# Altium footprint library PCB_LIB.PcbLib: 19 footprints (part 2 of 2)
Each footprint in its own frame and in the unit in brackets; x right, y up, seen from the top. Pads: shape width x height; smd on the part's side, far side on the other; paste and mask are expansions set on the pad; w line width, h text height; cw(c..) or ccw(c..) is an arc to the next point about the centre after c.
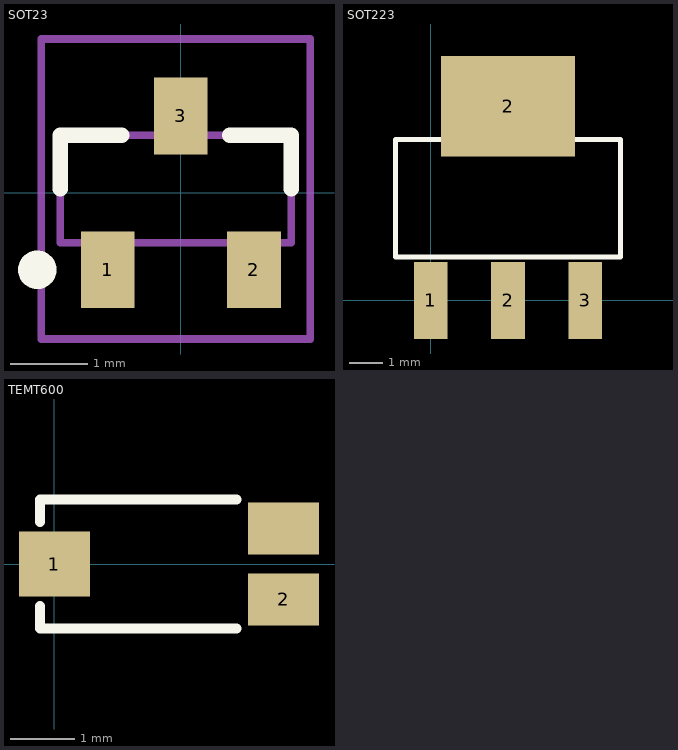
[diagram p1: the footprints below, top view; thin cyan lines are the x and y axes]

## SOT23 [mm]
pads (3):
  rect 0.7x1 smd: 1(-0.95,-1) 2(0.95,-1) 3(0,1)
Top Overlay:
  circle w0.25: c-1.866,-1 r0.125
  lines w0.2: -1.566,0.05 -1.566,0.75 -0.766,0.75 ; 0.634,0.75 1.434,0.75 1.434,0.05
Mechanical 13:
  lines w0.1: -1.566,-0.65 1.434,-0.65 1.434,0.75 -1.566,0.75 -1.566,-0.65
Mechanical 15:
  lines w0.1: -1.816,-1.9 1.684,-1.9 1.684,2 -1.816,2 -1.816,-1.9
3D body "SOT23.step": height 1.09, standoff 0, extent -1.5,-1.25 1.5,1.25

## SOT223 [mm]
pads (4):
  rect 1x2.3 smd: 1(0,0) 2(2.3,0) 3(4.6,0)
  rect 4x3 smd: 2(2.3,5.8)
Top Overlay:
  lines w0.15: -1.05,1.3 -1.05,4.8 5.65,4.8 5.65,1.3 -1.05,1.3
3D body "User Library-SOT-223-1.step": height 1.64, standoff -0.01, extent -0.95,-0.5 5.55,6.5

## TEMT600 [mm] "Ambient Light Sensor"
pads (3):
  rect 1.1x1 smd: 1(0,0)
  rect 1.1x0.8 smd: 2(3.55,-0.55) ""(3.55,0.55)
Top Overlay:
  lines w0.15: -0.225,-0.65 -0.225,-1 2.825,-1 ; -0.225,0.65 -0.225,1 2.825,1
3D body "temt 6000.step": height 1.01, standoff -0.03, extent -0.225,-1 3.775,1